# Altium footprint library FDD8874.PcbLib: 1 footprints
Each footprint in its own frame and in the unit in brackets; x right, y up, seen from the top. Pads: shape width x height; smd on the part's side, far side on the other; paste and mask are expansions set on the pad; w line width, h text height; cw(c..) or ccw(c..) is an arc to the next point about the centre after c.
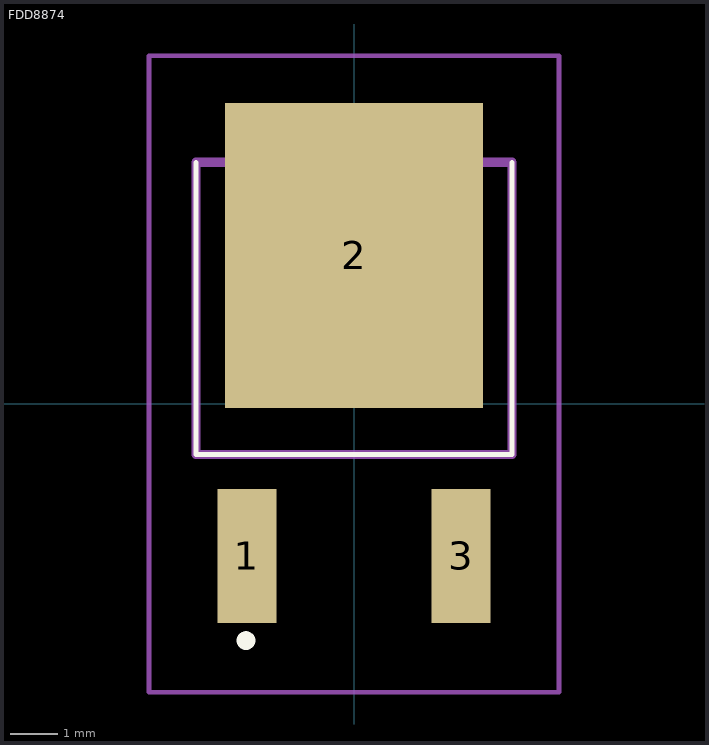
[diagram p0: the footprint, top view; thin cyan lines are the x and y axes]

## FDD8874 [mm]
pads (3):
  rect 1.25x2.85 smd: 1(-2.28,-3.24) 3(2.28,-3.24)
  rect 5.5x6.5 smd: 2(0,3.16)
Top Overlay:
  lines w0.1: -3.365,5.14 -3.365,-1.08 3.365,-1.08 3.365,5.14
  lines w0.2: -2.4,-5.04 -2.4,-5.04 ; -2.4,-5.04 ccw(c-2.3,-5.04) -2.2,-5.04 ; -2.4,-5.04 cw(c-2.3,-5.04) -2.2,-5.04 ; -2.2,-5.04 -2.2,-5.04
Mechanical 15:
  lines w0.2: -3.365,-1.08 3.365,-1.08 3.365,5.14 -3.365,5.14 -3.365,-1.08
Mechanical 20:
  lines w0.1: -4.365,-6.14 4.365,-6.14 4.365,7.41 -4.365,7.41 -4.365,-6.14
3D body "FQD2P40TM.stp": height 5.8, standoff -4.65, extent -10,-3.376 10,3.376